# Altium schematic symbol library 12V Relay Gen SPDT.SchLib: 1 symbol
Pins are listed as number, name and electrical type; pins without a type are passive.

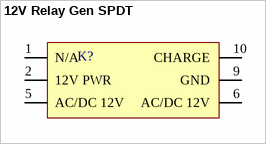
[diagram p0: symbol 12V Relay Gen SPDT]

## 12V Relay Gen SPDT
designator K?
pins: 1 N/A, 2 12V PWR, 5 AC/DC 12V, 6 AC/DC 12V, 9 GND, 10 CHARGE